# Altium footprint library RN52-IRM116.PcbLib: 1 footprints
Each footprint in its own frame and in the unit in brackets; x right, y up, seen from the top. Pads: shape width x height; smd on the part's side, far side on the other; paste and mask are expansions set on the pad; w line width, h text height; cw(c..) or ccw(c..) is an arc to the next point about the centre after c.
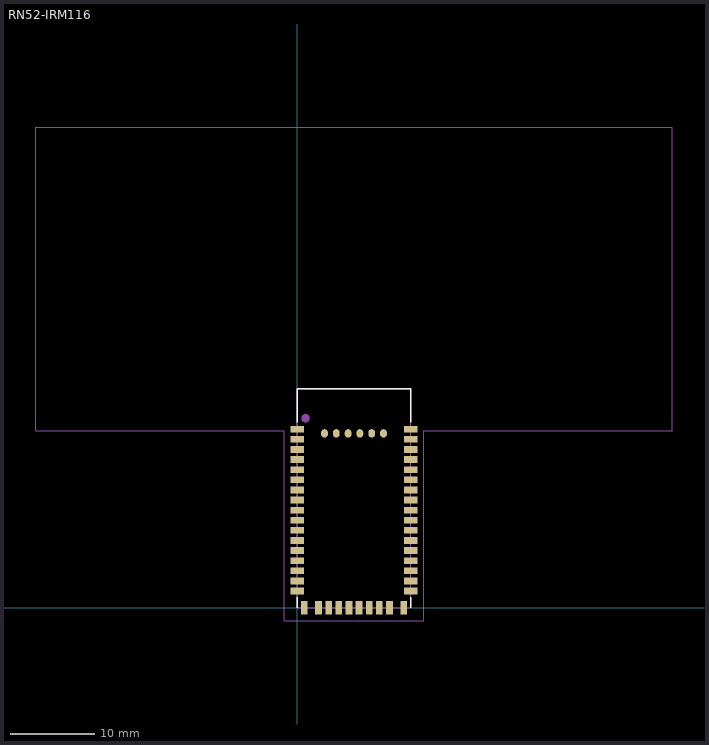
[diagram p0: the footprint, top view; thin cyan lines are the x and y axes]

## RN52-IRM116 [mm]
pads (50):
  rect 1.6x0.8 smd: 1(0,21.2) 2(0,20) 3(0,18.8) 4(0,17.6) 5(0,16.4) 6(0,15.2) 7(0,14) 8(0,12.8) 9(0,11.6) 10(0,10.4) 11(0,9.2) 12(0,8) 13(0,6.8) 14(0,5.6) 15(0,4.4) 16(0,3.2) 17(0,2) 28(13.5,2) 29(13.5,3.2) 30(13.5,4.4) 31(13.5,5.6) 32(13.5,6.8) 33(13.5,8) 34(13.5,9.2) 35(13.5,10.4) 36(13.5,11.6) 37(13.5,12.8) 38(13.5,14) 39(13.5,15.2) 40(13.5,16.4) 41(13.5,17.6) 42(13.5,18.8) 43(13.5,20) 44(13.5,21.2)
  rect 0.8x1.6 smd: 18(0.85,0) 19(2.55,0) 20(3.75,0) 21(4.95,0) 22(6.15,0) 23(7.35,0) 24(8.55,0) 25(9.75,0) 26(10.95,0) 27(12.65,0)
  rrect100% 0.8x1 smd: 45(10.25,20.7) 46(8.85,20.7) 47(7.45,20.7) 48(6.05,20.7) 49(4.65,20.7) 50(3.25,20.7)
Top Overlay:
  lines w0.15: 0,0 0,1.25 ; 0,22 0,26 13.5,26 13.5,22 ; 13.5,0 13.5,1.25
Mechanical 1:
  circle w0.5: c1,22.5 r0.25
  lines w0.1: 0,0 0,26 13.5,26 13.5,0 0,0
  text ".Designator" at 3.109,9.498 h0.65
Mechanical 2:
  lines w0.05: -31,21 -31,26 -31,57 44.5,57 44.5,21 15,21 15,-1.5 -1.5,-1.5 -1.5,21 -31,21